# Altium schematic symbol library ADCSComponents.SchLib: 55 symbols
Pins are listed as number, name and electrical type; pins without a type are passive.

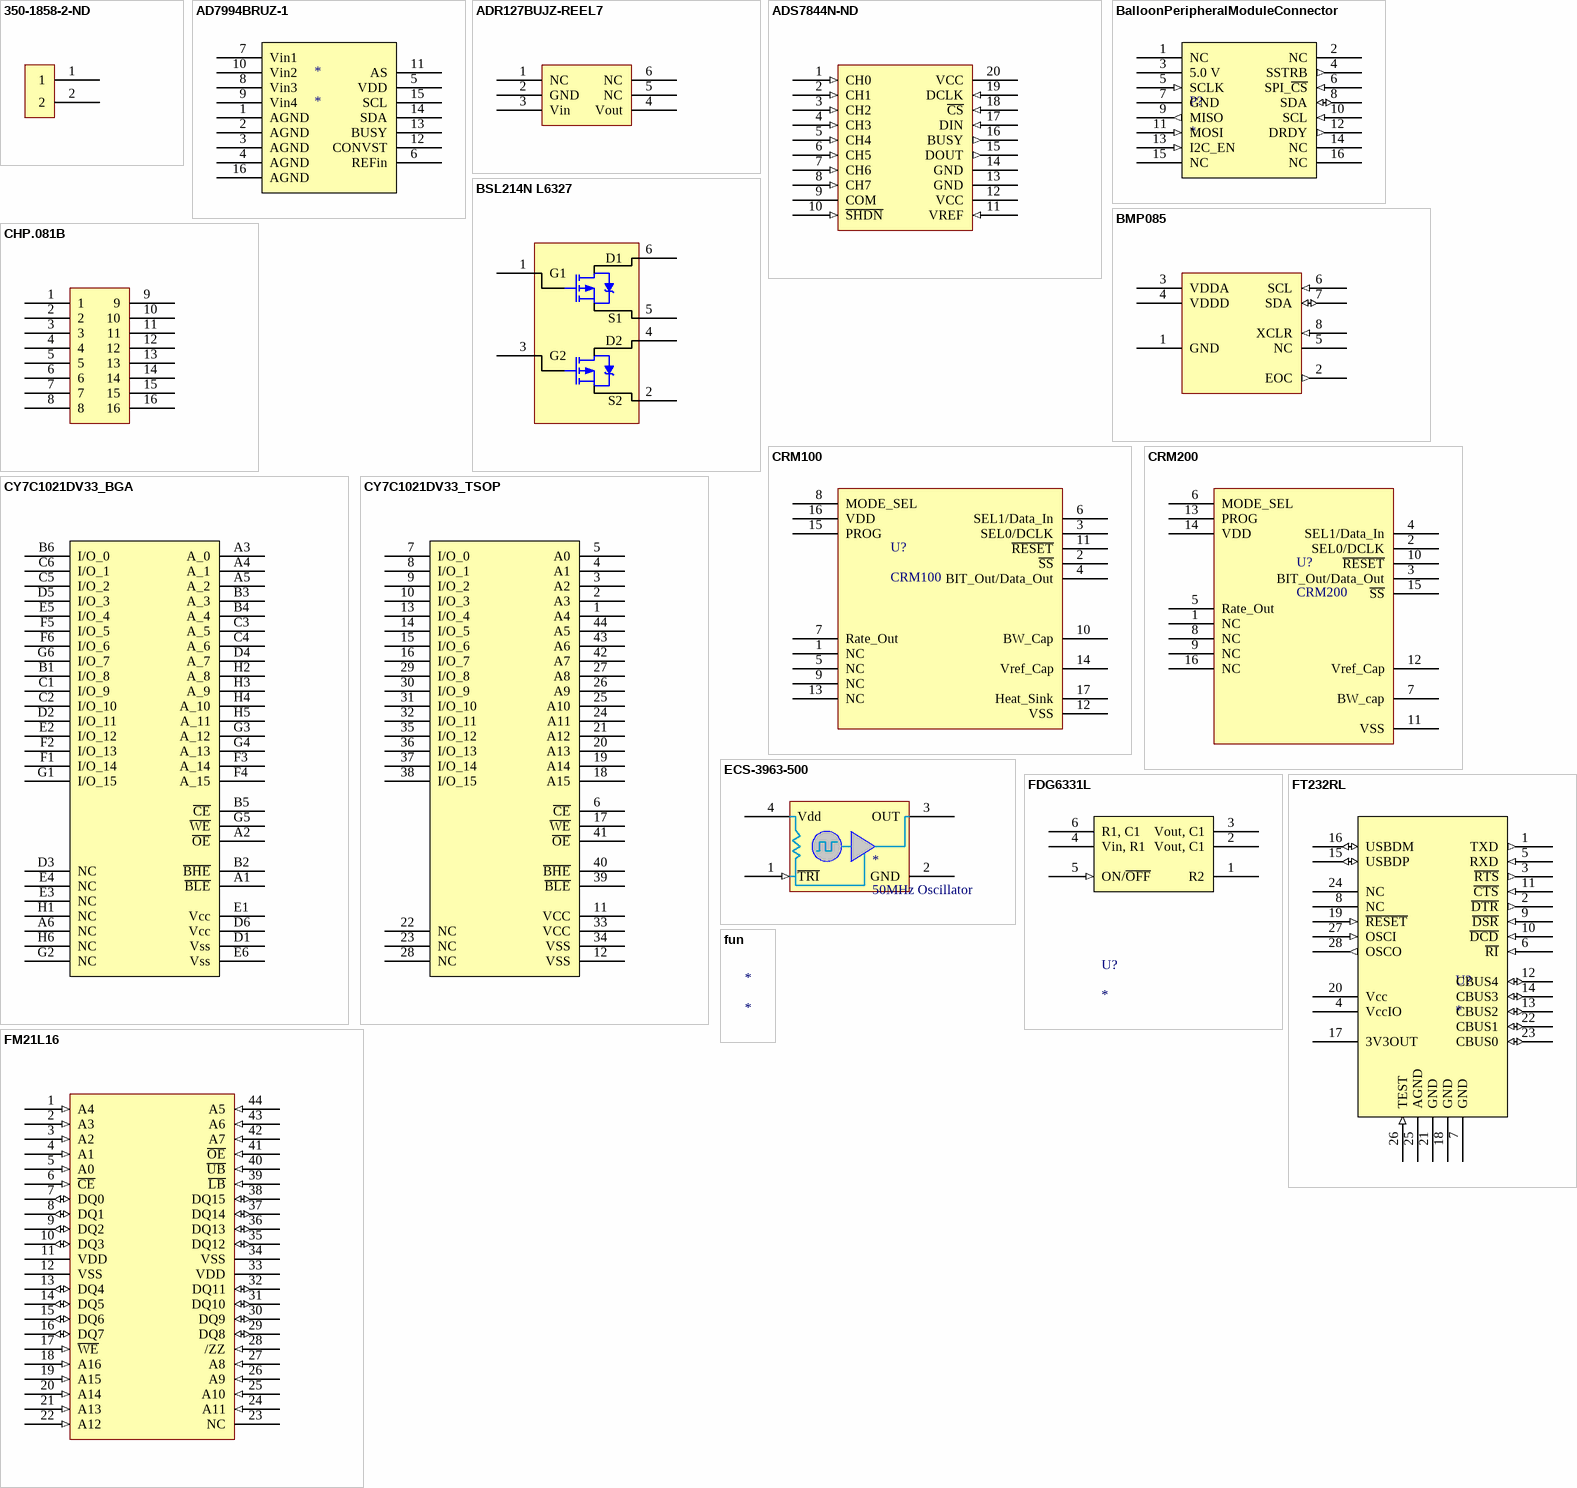
[diagram p0: symbols 350-1858-2-ND to fun]

## 350-1858-2-ND
designator U?  (value not drawn)
LED; Digikey: 350-1858-2-ND; Datasheet: http://www.dialight.com/Assets/Brochures_And_Catalogs/Indication/MDEF592B001.pdf
footprint SuperSOT-6
pins: 1, 2

## AD7994BRUZ-1
designator *
Digikey: AD7994BRUZ-1
footprint 16-TSSOP
pins: 1 AGND, 2 AGND, 3 AGND, 4 AGND, 5 VDD, 6 REFin, 7 Vin1, 8 Vin3, 9 Vin4, 10 Vin2, 11 AS, 12 CONVST, 13 BUSY, 14 SDA, 15 SCL, 16 AGND

## ADR127BUJZ-REEL7
designator U?
ADR127BUJZ-REEL7 voltage reference; Datasheet: http://www.analog.com/static/imported-files/Data_Sheets/ADR121_125_127.pdf; Digikey: ADR127BUJZ-REEL7CT-ND
footprint ADR127BUJZ-REEL7
pins: 1 NC, 2 GND, 3 Vin, 4 Vout, 5 NC, 6 NC

## ADS7844N-ND
designator U?
ADC; Digikey: ADS7844N-ND; datasheet: http://www.ti.com/lit/ds/symlink/ads7844.pdf
footprint ADS7844N-ND
pins: 1 CH0 (in), 2 CH1 (in), 3 CH2 (in), 4 CH3 (in), 5 CH4 (in), 6 CH5 (in), 7 CH6 (in), 8 CH7 (in), 9 COM (power), 10 ~{SHDN} (in), 11 VREF (in), 12 VCC (power), 13 GND (power), 14 GND (power), 15 DOUT (out), 16 BUSY (out), 17 DIN (in), 18 ~{CS} (in), 19 DCLK (in), 20 VCC (power)

## BalloonPeripheralModuleConnector
designator P?
Connector to balloon peripheral ADCS modules; Samtec: FTSH-108-01-L-DV-K
footprint FTSH-108-01-L-DV-K (8X2 50 mil pitch SMT header)
pins: 1 NC, 2 NC, 3 5.0 V (power), 4 SSTRB (out), 5 SCLK (in), 6 SPI_~{CS} (in), 7 GND (power), 8 SDA (io), 9 MISO (out), 10 SCL (in), 11 MOSI (in), 12 DRDY (out), 13 I2C_EN (in), 14 NC, 15 NC, 16 NC

## BMP085
designator U?
Pressure Sensor; Digikey: 828-1005-1-ND; Datasheet: http://www.bosch-sensortec.com/content/language1/downloads/BST-BMP085-DS000-05.pdf
footprint BMP085
pins: 1 GND (power), 2 EOC (out), 3 VDDA (power), 4 VDDD (power), 5 NC, 6 SCL (in), 7 SDA (io), 8 XCLR (in)

## BSL214N L6327
designator U?
2-Pack NMOS; Digikey: BSL214N L6327CT-ND; Datasheet: http://www.infineon.com/dgdl/BSL214N_Rev2.1.pdf?folderId=db3a3043156fd573011622e10b5c1f67&fileId=db3a30431add1d95011afc5baa4504c2
footprint SuperSOT-6
pins: 1 G1, 2 S2, 3 G2, 4 D2, 5 S1, 6 D1

## CHP.081B
designator U?
DIP switch; datasheet: http://media.digikey.com/pdf/Data%20Sheets/COPAL%20Electronics%20PDFs/CHP.pdf; digikey: 563-1020-1-ND
footprint CHP.041TB
pins: 1, 2, 3, 4, 5, 6, 7, 8, 9, 10, 11, 12, 13, 14, 15, 16

## CRM100
designator U?
Z axis Gyro
pins: 1 NC, 2 ~{SS}, 3 SEL0/DCLK, 4 BIT_Out/Data_Out, 5 NC, 6 SEL1/Data_In, 7 Rate_Out, 8 MODE_SEL, 9 NC, 10 BW_Cap, 11 ~{RESET}, 12 VSS, 13 NC, 14 Vref_Cap, 15 PROG, 16 VDD, 17 Heat_Sink

## CRM200
designator U?
X or Y axis Gyro
pins: 1 NC, 2 SEL0/DCLK, 3 BIT_Out/Data_Out, 4 SEL1/Data_In, 5 Rate_Out, 6 MODE_SEL, 7 BW_cap, 8 NC, 9 NC, 10 ~{RESET}, 11 VSS, 12 Vref_Cap, 13 PROG, 14 VDD, 15 ~{SS}, 16 NC

## CY7C1021DV33_BGA
designator U?
SRAM with BGA footprint; Digikey: 428-2006-ND; Datasheet: http://www.cypress.com/?docID=31965
footprint SRAM (SRAM 6x8 BGA)
pins: A1 ~{BLE}, A2 ~{OE}, A3 A_0, A4 A_1, A5 A_2, A6 NC, B1 I/O_8, B2 ~{BHE}, B3 A_3, B4 A_4, B5 ~{CE}, B6 I/O_0, C1 I/O_9, C2 I/O_10, C3 A_5, C4 A_6, C5 I/O_2, C6 I/O_1, D1 Vss, D2 I/O_11, D3 NC, D4 A_7, D5 I/O_3, D6 Vcc, E1 Vcc, E2 I/O_12, E3 NC, E4 NC, E5 I/O_4, E6 Vss, F1 I/O_14, F2 I/O_13, F3 A_14, F4 A_15, F5 I/O_5, F6 I/O_6, G1 I/O_15, G2 NC, G3 A_12, G4 A_13, G5 ~{WE}, G6 I/O_7, H1 NC, H2 A_8, H3 A_9, H4 A_10, H5 A_11, H6 NC

## CY7C1021DV33_TSOP
designator U?  (value not drawn)
SRAM with TSOP footprint; Digikey: 428-2006-ND; datasheet: http://www.cypress.com/?docID=31965
footprint SRAM_2 (44-pin Thin Small Outline Package Type II)
pins: 1 A4, 2 A3, 3 A2, 4 A1, 5 A0, 6 ~{CE}, 7 I/O_0, 8 I/O_1, 9 I/O_2, 10 I/O_3, 11 VCC, 12 VSS, 13 I/O_4, 14 I/O_5, 15 I/O_6, 16 I/O_7, 17 ~{WE}, 18 A15, 19 A14, 20 A13, 21 A12, 22 NC, 23 NC, 24 A11, 25 A10, 26 A9, 27 A8, 28 NC, 29 I/O_8, 30 I/O_9, 31 I/O_10, 32 I/O_11, 33 VCC, 34 VSS, 35 I/O_12, 36 I/O_13, 37 I/O_14, 38 I/O_15, 39 ~{BLE}, 40 ~{BHE}, 41 ~{OE}, 42 A7, 43 A6, 44 A5

## ECS-3963-500
designator *, comment 50MHz Oscillator
Datasheet: http://www.ecsxtal.com/store/pdf/ecs-3961_3963.pdf; Digikey: XC1040CT-ND
footprint ECS-3963-500-BN-TR
pins: 1 ~{TRI} (in), 2 GND (power), 3 OUT, 4 Vdd (power)

## FDG6331L
designator U?
High side power distribution switch; Digikey: FDG6331LCT-ND; Datasheet: http://www.fairchildsemi.com/ds/FD%2FFDG6331L.pdf
footprint FDG6331L
pins: 1 R2, 2 Vout, C1 (power), 3 Vout, C1 (power), 4 Vin, R1 (power), 5 ON/~{OFF} (in), 6 R1, C1

## FM21L16
designator U?
FRAM; Datasheet: http://www.ramtron.com/files/datasheets/FM21L16_ds.pdf; Ramtron: FM21L16
footprint FM21L16
pins: 1 A4 (in), 2 A3 (in), 3 A2 (in), 4 A1 (in), 5 A0 (in), 6 ~{CE} (in), 7 DQ0 (io), 8 DQ1 (io), 9 DQ2 (io), 10 DQ3 (io), 11 VDD (power), 12 VSS (power), 13 DQ4 (io), 14 DQ5 (io), 15 DQ6 (io), 16 DQ7 (io), 17 ~{WE} (in), 18 A16 (in), 19 A15 (in), 20 A14 (in), 21 A13 (in), 22 A12 (in), 23 NC, 24 A11 (in), 25 A10 (in), 26 A9 (in), 27 A8 (in), 28 /ZZ (in), 29 DQ8 (io), 30 DQ9 (io), 31 DQ10 (io), 32 DQ11 (io), 33 VDD (power), 34 VSS (power), 35 DQ12 (io), 36 DQ13 (io), 37 DQ14 (io), 38 DQ15 (io), 39 ~{LB} (in), 40 ~{UB} (in), 41 ~{OE} (in), 42 A7 (in), 43 A6 (in), 44 A5 (in)

## FT232RL
designator U?
UART to USB translator; Datasheet: http://www.ftdichip.com/Support/Documents/DataSheets/ICs/DS_FT232R.pdf; Digikey: 768-1007-1-ND
footprint SSOP-28 (UART to USB translator)
pins: 1 TXD (out), 2 ~{DTR} (out), 3 ~{RTS} (out), 4 VccIO (power), 5 RXD (in), 6 ~{RI} (in), 7 GND (power), 8 NC, 9 ~{DSR} (in), 10 ~{DCD} (in), 11 ~{CTS} (in), 12 CBUS4 (io), 13 CBUS2 (io), 14 CBUS3 (io), 15 USBDP (io), 16 USBDM (io), 17 3V3OUT (power), 18 GND (power), 19 ~{RESET} (in), 20 Vcc (power), 21 GND (power), 22 CBUS1 (io), 23 CBUS0 (io), 24 NC, 25 AGND (power), 26 TEST (in), 27 OSCI (in), 28 OSCO (out)

## fun
designator *
Supplier 1: Mouser; Supplier 2: Mouser; Supplier 3: Farnell; Supplier 4: Digi-Key

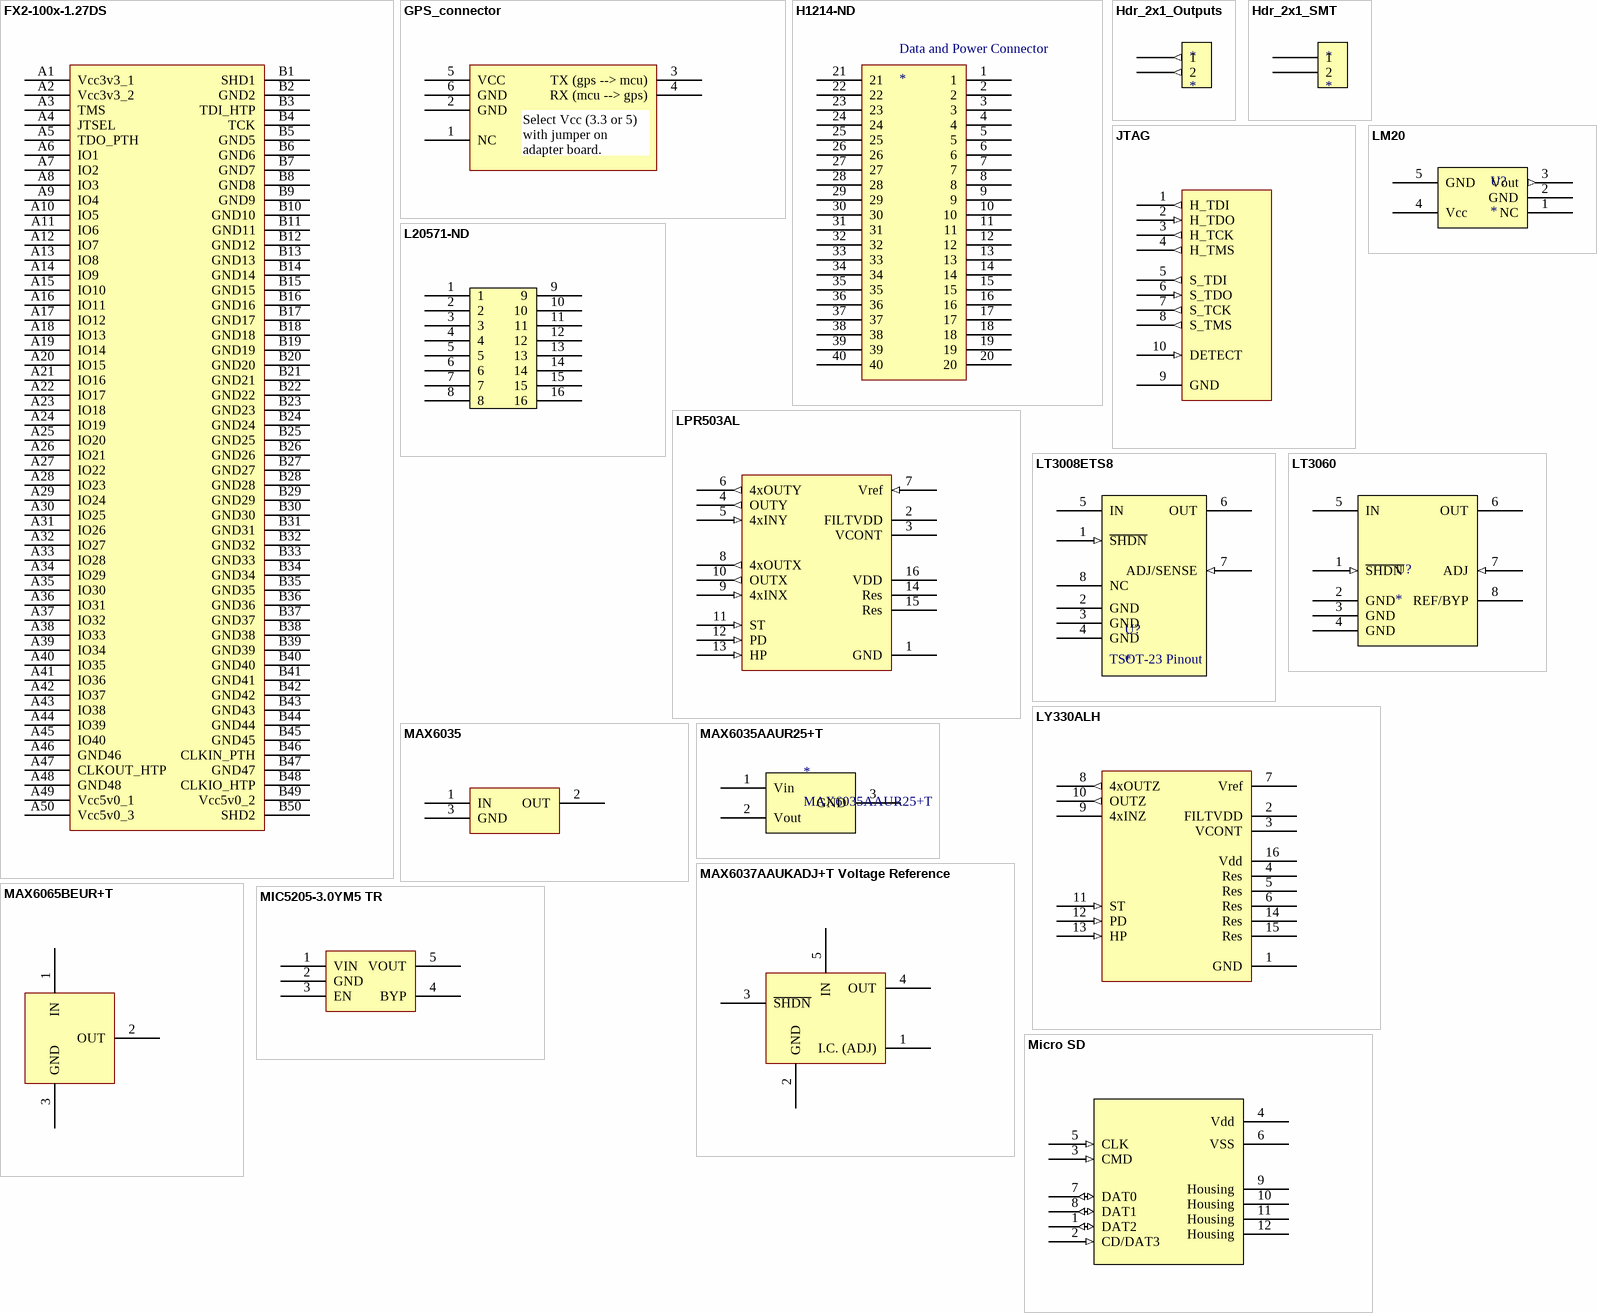
[diagram p1: symbols FX2-100x-1.27DS to Micro SD]

## FX2-100x-1.27DS
designator P?
100-pin connector s3sb connector
footprint FX2-100S-1.27DS (11-pin s3sb expansion connecter)
pins: A1 Vcc3v3_1, A2 Vcc3v3_2, A3 TMS, A4 JTSEL, A5 TDO_PTH, A6 IO1, A7 IO2, A8 IO3, A9 IO4, A10 IO5, A11 IO6, A12 IO7, A13 IO8, A14 IO9, A15 IO10, A16 IO11, A17 IO12, A18 IO13, A19 IO14, A20 IO15, A21 IO16, A22 IO17, A23 IO18, A24 IO19, A25 IO20, A26 IO21, A27 IO22, A28 IO23, A29 IO24, A30 IO25, A31 IO26, A32 IO27, A33 IO28, A34 IO29, A35 IO30, A36 IO31, A37 IO32, A38 IO33, A39 IO34, A40 IO35, A41 IO36, A42 IO37, A43 IO38, A44 IO39, A45 IO40, A46 GND46, A47 CLKOUT_HTP, A48 GND48, A49 Vcc5v0_1, A50 Vcc5v0_3, B1 SHD1, B2 GND2, B3 TDI_HTP, B4 TCK, B5 GND5, B6 GND6, B7 GND7, B8 GND8, B9 GND9, B10 GND10, B11 GND11, B12 GND12, B13 GND13, B14 GND14, B15 GND15, B16 GND16, B17 GND17, B18 GND18, B19 GND19, B20 GND20, B21 GND21, B22 GND22, B23 GND23, B24 GND24, B25 GND25, B26 GND26, B27 GND27, B28 GND28, B29 GND29, B30 GND30, B31 GND31, B32 GND32, B33 GND33, B34 GND34, B35 GND35, B36 GND36, B37 GND37, B38 GND38, B39 GND39, B40 GND40, B41 GND41, B42 GND42, B43 GND43, B44 GND44, B45 GND45, B46 CLKIN_PTH, B47 GND47, B48 CLKIO_HTP, B49 Vcc5v0_2, B50 SHD2

## GPS_connector
designator P?
GPS Connector; digikey: 455-1806-1-ND; datasheet: http://www.jst-mfg.com/product/pdf/eng/eSH.pdf
footprint SM06B-SRSS-TB (Right-angle GPS connector)
pins: 1 NC, 2 GND, 3 TX (gps --> mcu), 4 RX (mcu --> gps), 5 VCC, 6 GND
text: Select Vcc (3.3 or 5) with jumper on adapter board.

## H1214-ND
designator Data and Power Connector
CONN RECEPT 40POS .6MM GOLD SMD
footprint H1214-ND (CONN RECEPT 40POS .6MM GOLD SMD)
pins: 1, 2, 3, 4, 5, 6, 7, 8, 9, 10, 11, 12, 13, 14, 15, 16, 17, 18, 19, 20, 21, 22, 23, 24, 25, 26, 27, 28, 29, 30, 31, 32, 33, 34, 35, 36, 37, 38, 39, 40

## Hdr_2x1_Outputs
designator *
Samtec: TSM Single Row Horizontal; Footprint: http://www.samtec.com/documents/webfiles/cpdf/TSM-SH.PDF
footprint Hdr_2x1_outputs
pins: 1 (out), 2 (out)

## Hdr_2x1_SMT
designator *
footprint Hdr_2x1_outputs
pins: 1, 2

## JTAG
designator *
Samtec: HTST-105-01-T-DV; PinoutRef: http://wiki.altium.com/display/ADOH/USB+JTAG+Adapter+-+Cable+Pinouts
footprint HTST-105-01-T-DV (Double Row Shrouded Vertical Header)
pins: 1 H_TDI (out), 2 H_TDO (in), 3 H_TCK (out), 4 H_TMS (out), 5 S_TDI (out), 6 S_TDO (in), 7 S_TCK (out), 8 S_TMS (out), 9 GND (power), 10 DETECT (in)

## L20571-ND
designator U?  (value not drawn)
LEDs; Digikey: http://www.chml.com/products/pdf/1-175.pdf
footprint L20571-ND
pins: 1, 2, 3, 4, 5, 6, 7, 8, 9, 10, 11, 12, 13, 14, 15, 16

## LM20
designator U?
Analog Temperature Sensor; Datasheet: http://www.st.com/internet/com/TECHNICAL_RESOURCES/TECHNICAL_LITERATURE/DATASHEET/CD00119601.pdf; Digikey: 497-5970-1-ND
footprint LM20
pins: 1 NC, 2 GND (power), 3 Vout (out), 4 Vcc (power), 5 GND (power)

## LPR503AL
designator U?, comment LPY550Al
XY axis Gyroscope; Datasheet: http://www.st.com/internet/com/TECHNICAL_RESOURCES/TECHNICAL_LITERATURE/DATASHEET/CD00237207.pdf; Digikey: 497-8968-1-ND
footprint LPR503AL
pins: 1 GND (power), 2 FILTVDD, 3 VCONT, 4 OUTY (out) "not applified output", 5 4xINY (in) "input of 4x amplifier", 6 4xOUTY (out) "X rate signal output voltage (amplified)", 7 Vref (in), 8 4xOUTX (out), 9 4xINX (in), 10 OUTX (out) "not applified output", 11 ST (in) "self-test (logic 0: normal, logic 1: self-test)", 12 PD (in) "power down", 13 HP (in) "high pass filter reset", 14 Res "connect to Vdd", 15 Res "Connect to Vdd", 16 VDD (power) "power"

## LT3008ETS8
designator U?
Adjustable Output LDO, DFN package; Datasheet: http://cds.linear.com/docs/Datasheet/3008fb.pdf; Digikey: LT3008MPTS8#TRMPBFDKR-ND
footprint LT3008ETS8
pins: 1 ~{SHDN} (in), 2 GND (power), 3 GND (power), 4 GND (power), 5 IN (power), 6 OUT (power), 7 ADJ/SENSE (in), 8 NC
text: TSOT-23 Pinout

## LT3060
designator U?
Fixed output LDO; Digikey: LT3060MPTS8-1.2#TRMPBFCT-ND; Datasheet: http://cds.linear.com/docs/Datasheet/3060fb.pdf
footprint LT3008ETS8
pins: 1 ~{SHDN} (in), 2 GND (power), 3 GND (power), 4 GND (power), 5 IN (power), 6 OUT (power), 7 ADJ (in), 8 REF/BYP

## LY330ALH
designator U?, comment LY550ALH
Single axis gyro; Digikey: 497-8960-1-ND; Datasheet: http://www.st.com/internet/com/TECHNICAL_RESOURCES/TECHNICAL_LITERATURE/DATASHEET/CD00237192.pdf
footprint LY330ALH
pins: 1 GND (power), 2 FILTVDD (power) "self test", 3 VCONT "PLL filter connection", 4 Res, 5 Res "connect to Vdd", 6 Res, 7 Vref, 8 4xOUTZ (out), 9 4xINZ, 10 OUTZ (out), 11 ST (in), 12 PD (in), 13 HP (in), 14 Res, 15 Res, 16 Vdd (power)

## MAX6035
designator U?
5.0V Reference; Datasheet: http://datasheets.maxim-ic.com/en/ds/MAX6035.pdf; Digikey: MAX6035AAUR50+TCT-ND
footprint MAX6035
pins: 1 IN (power), 2 OUT (power), 3 GND (power)

## MAX6035AAUR25+T
designator *
Voltage Reference 2.5V; Digikey: MAX6035AAUR25+TCT-ND; Datasheet: http://datasheets.maxim-ic.com/en/ds/MAX6035.pdf
footprint SOT-23-3
pins: 1 Vin, 2 Vout, 3 GND

## MAX6037AAUKADJ+T Voltage Reference
designator *, comment MAX6037AAUKADJ+T
MAX6037AAUKADJ+T Voltage Reference; datasheet: http://datasheets.maxim-ic.com/en/ds/MAX6037-MAX6037C.pdf
footprint MAX6037AAUKADJ+T
pins: 1 I.C. (ADJ), 2 GND, 3 ~{SHDN}, 4 OUT, 5 IN

## MAX6065BEUR+T
designator *
datasheet: http://datasheets.maxim-ic.com/en/ds/MAX6061-MAX6068.pdf
footprint MAX6065BEUR_T
pins: 1 IN, 2 OUT, 3 GND

## MIC5205-3.0YM5 TR
designator U?
Voltage Regulator_linear; Digikey: 576-1258-1-ND; datasheet: http://www.micrel.com/_PDF/mic5205.pdf
footprint TPS3838K33
pins: 1 VIN, 2 GND, 3 EN, 4 BYP, 5 VOUT

## Micro SD
designator U?, comment 101-00303-68-1-ND  (value not drawn)
Micro SD; Digikey: 101-00303-68-1-ND; Datasheet: http://media.digikey.com/pdf/Data%20Sheets/Amphenol%20PDFs/101-00303-xx.pdf
footprint micro SD (Micro SD 101-00303-68-1-ND)
pins: 1 DAT2 (io), 2 CD/DAT3 (in), 3 CMD (in), 4 Vdd (power), 5 CLK (in), 6 VSS (power), 7 DAT0 (io), 8 DAT1 (io), 9 Housing, 10 Housing, 11 Housing, 12 Housing

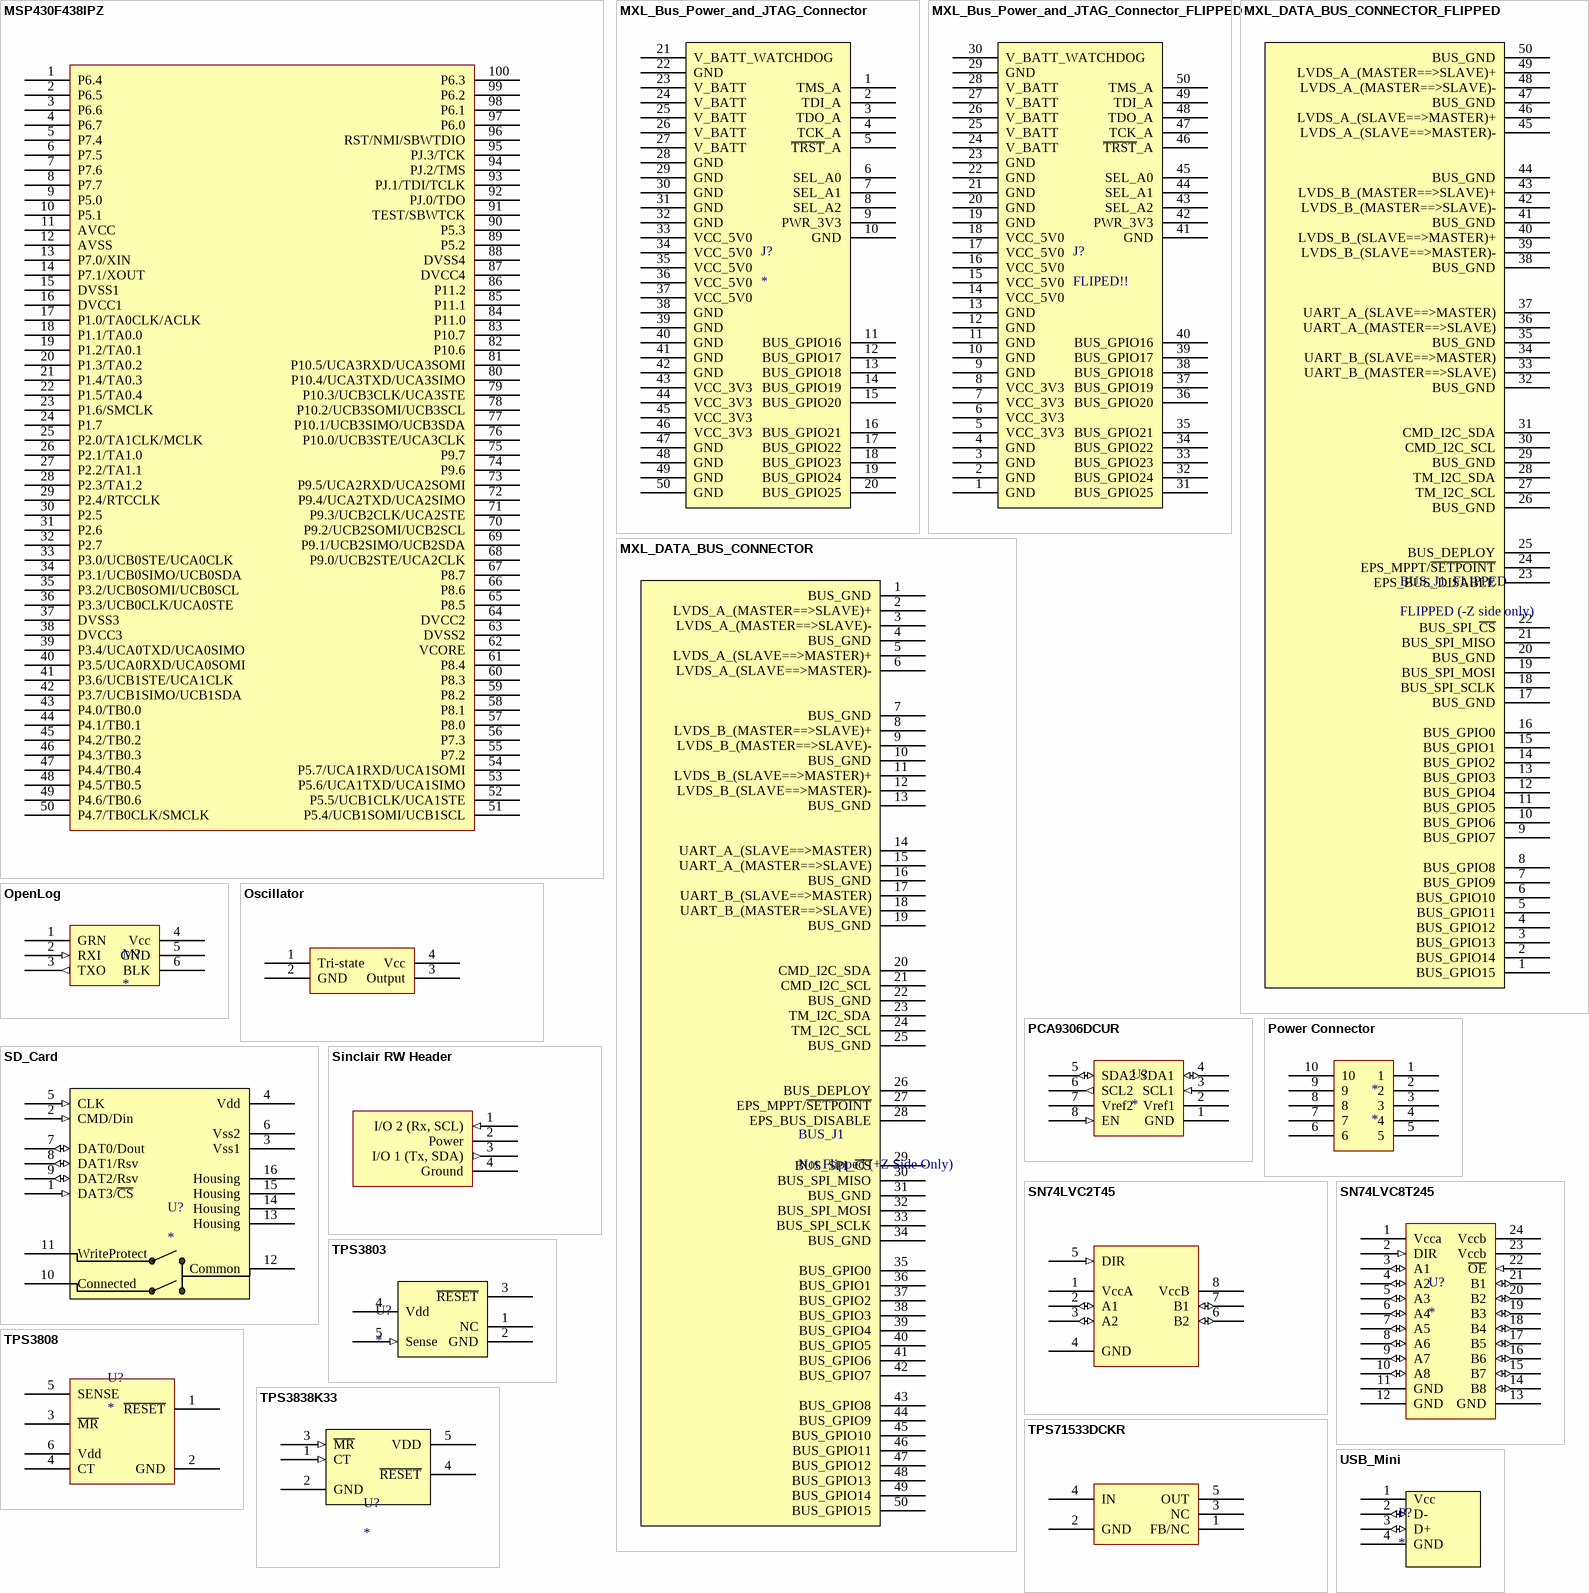
[diagram p2: symbols MSP430F438IPZ to USB_Mini]

## MSP430F438IPZ
designator *, comment rax_battery_charging_connector
footprint SQFP50P1600X1600-100L (Shrink QFP, 100-Leads, Body 14x14mm, Pitch 0.5mm, IPC High Density)
pins: 1 P6.4, 2 P6.5, 3 P6.6, 4 P6.7, 5 P7.4, 6 P7.5, 7 P7.6, 8 P7.7, 9 P5.0, 10 P5.1, 11 AVCC, 12 AVSS, 13 P7.0/XIN, 14 P7.1/XOUT, 15 DVSS1, 16 DVCC1, 17 P1.0/TA0CLK/ACLK, 18 P1.1/TA0.0, 19 P1.2/TA0.1, 20 P1.3/TA0.2, 21 P1.4/TA0.3, 22 P1.5/TA0.4, 23 P1.6/SMCLK, 24 P1.7, 25 P2.0/TA1CLK/MCLK, 26 P2.1/TA1.0, 27 P2.2/TA1.1, 28 P2.3/TA1.2, 29 P2.4/RTCCLK, 30 P2.5, 31 P2.6, 32 P2.7, 33 P3.0/UCB0STE/UCA0CLK, 34 P3.1/UCB0SIMO/UCB0SDA, 35 P3.2/UCB0SOMI/UCB0SCL, 36 P3.3/UCB0CLK/UCA0STE, 37 DVSS3, 38 DVCC3, 39 P3.4/UCA0TXD/UCA0SIMO, 40 P3.5/UCA0RXD/UCA0SOMI, 41 P3.6/UCB1STE/UCA1CLK, 42 P3.7/UCB1SIMO/UCB1SDA, 43 P4.0/TB0.0, 44 P4.1/TB0.1, 45 P4.2/TB0.2, 46 P4.3/TB0.3, 47 P4.4/TB0.4, 48 P4.5/TB0.5, 49 P4.6/TB0.6, 50 P4.7/TB0CLK/SMCLK, 51 P5.4/UCB1SOMI/UCB1SCL, 52 P5.5/UCB1CLK/UCA1STE, 53 P5.6/UCA1TXD/UCA1SIMO, 54 P5.7/UCA1RXD/UCA1SOMI, 55 P7.2, 56 P7.3, 57 P8.0, 58 P8.1, 59 P8.2, 60 P8.3, 61 P8.4, 62 VCORE, 63 DVSS2, 64 DVCC2, 65 P8.5, 66 P8.6, 67 P8.7, 68 P9.0/UCB2STE/UCA2CLK, 69 P9.1/UCB2SIMO/UCB2SDA, 70 P9.2/UCB2SOMI/UCB2SCL, 71 P9.3/UCB2CLK/UCA2STE, 72 P9.4/UCA2TXD/UCA2SIMO, 73 P9.5/UCA2RXD/UCA2SOMI, 74 P9.6, 75 P9.7, 76 P10.0/UCB3STE/UCA3CLK, 77 P10.1/UCB3SIMO/UCB3SDA, 78 P10.2/UCB3SOMI/UCB3SCL, 79 P10.3/UCB3CLK/UCA3STE, 80 P10.4/UCA3TXD/UCA3SIMO, 81 P10.5/UCA3RXD/UCA3SOMI, 82 P10.6, 83 P10.7, 84 P11.0, 85 P11.1, 86 P11.2, 87 DVCC4, 88 DVSS4, 89 P5.2, 90 P5.3, 91 TEST/SBWTCK, 92 PJ.0/TDO, 93 PJ.1/TDI/TCLK, 94 PJ.2/TMS, 95 PJ.3/TCK, 96 RST/NMI/SBWTDIO, 97 P6.0, 98 P6.1, 99 P6.2, 100 P6.3

## MXL_Bus_Power_and_JTAG_Connector
designator J?
50-pin power / JTAG connector; Digikey: WM18872-ND; Datasheet: http://www.molex.com/pdm_docs/sd/878335020_sd.pdf; ProductPage: http://www.molex.com/molex/products/datasheet.jsp?part=active/0878335020_PCB_HEADERS.xml
footprint SHF-125-01-L-D-RA (Right angle shrouded header for Samtec ribbon cable assy.)
pins: 1 TMS_A, 2 TDI_A, 3 TDO_A, 4 TCK_A, 5 ~{TRST}_A, 6 SEL_A0, 7 SEL_A1, 8 SEL_A2, 9 PWR_3V3, 10 GND, 11 BUS_GPIO16, 12 BUS_GPIO17, 13 BUS_GPIO18, 14 BUS_GPIO19, 15 BUS_GPIO20, 16 BUS_GPIO21, 17 BUS_GPIO22, 18 BUS_GPIO23, 19 BUS_GPIO24, 20 BUS_GPIO25, 21 V_BATT_WATCHDOG, 22 GND, 23 V_BATT, 24 V_BATT, 25 V_BATT, 26 V_BATT, 27 V_BATT, 28 GND, 29 GND, 30 GND, 31 GND, 32 GND, 33 VCC_5V0, 34 VCC_5V0, 35 VCC_5V0, 36 VCC_5V0, 37 VCC_5V0, 38 GND, 39 GND, 40 GND, 41 GND, 42 GND, 43 VCC_3V3, 44 VCC_3V3, 45 VCC_3V3, 46 VCC_3V3, 47 GND, 48 GND, 49 GND, 50 GND

## MXL_Bus_Power_and_JTAG_Connector_FLIPPED
designator J?, comment FLIPED!!
50-pin power / JTAG connector; Digikey: WM18872-ND; Datasheet: http://www.molex.com/pdm_docs/sd/878335020_sd.pdf; ProductPage: http://www.molex.com/molex/products/datasheet.jsp?part=active/0878335020_PCB_HEADERS.xml
footprint SHF-125-01-L-D-RA - FLIPPED (Right angle shrouded header for Samtec ribbon cable assy.)
pins: 1 GND, 2 GND, 3 GND, 4 GND, 5 VCC_3V3, 6 VCC_3V3, 7 VCC_3V3, 8 VCC_3V3, 9 GND, 10 GND, 11 GND, 12 GND, 13 GND, 14 VCC_5V0, 15 VCC_5V0, 16 VCC_5V0, 17 VCC_5V0, 18 VCC_5V0, 19 GND, 20 GND, 21 GND, 22 GND, 23 GND, 24 V_BATT, 25 V_BATT, 26 V_BATT, 27 V_BATT, 28 V_BATT, 29 GND, 30 V_BATT_WATCHDOG, 31 BUS_GPIO25, 32 BUS_GPIO24, 33 BUS_GPIO23, 34 BUS_GPIO22, 35 BUS_GPIO21, 36 BUS_GPIO20, 37 BUS_GPIO19, 38 BUS_GPIO18, 39 BUS_GPIO17, 40 BUS_GPIO16, 41 GND, 42 PWR_3V3, 43 SEL_A2, 44 SEL_A1, 45 SEL_A0, 46 ~{TRST}_A, 47 TCK_A, 48 TDO_A, 49 TDI_A, 50 TMS_A

## MXL_DATA_BUS_CONNECTOR
designator BUS_J1, comment Not Flipped (+Z Side Only)
50-pin ribbon cable; Digikey: WM18872-ND; Datasheet: http://www.molex.com/pdm_docs/sd/878335020_sd.pdf; ProductPage: http://www.molex.com/molex/products/datasheet.jsp?part=active/0878335020_PCB_HEADERS.xml
footprint SHF-125-01-L-D-RA (Right angle shrouded header for Samtec ribbon cable assy.)
pins: 1 BUS_GND, 2 LVDS_A_(MASTER==>SLAVE)+, 3 LVDS_A_(MASTER==>SLAVE)-, 4 BUS_GND, 5 LVDS_A_(SLAVE==>MASTER)+, 6 LVDS_A_(SLAVE==>MASTER)-, 7 BUS_GND, 8 LVDS_B_(MASTER==>SLAVE)+, 9 LVDS_B_(MASTER==>SLAVE)-, 10 BUS_GND, 11 LVDS_B_(SLAVE==>MASTER)+, 12 LVDS_B_(SLAVE==>MASTER)-, 13 BUS_GND, 14 UART_A_(SLAVE==>MASTER), 15 UART_A_(MASTER==>SLAVE), 16 BUS_GND, 17 UART_B_(SLAVE==>MASTER), 18 UART_B_(MASTER==>SLAVE), 19 BUS_GND, 20 CMD_I2C_SDA, 21 CMD_I2C_SCL, 22 BUS_GND, 23 TM_I2C_SDA, 24 TM_I2C_SCL, 25 BUS_GND, 26 BUS_DEPLOY, 27 EPS_MPPT/~{SETPOINT}, 28 EPS_BUS_DISABLE, 29 BUS_SPI_~{CS}, 30 BUS_SPI_MISO, 31 BUS_GND, 32 BUS_SPI_MOSI, 33 BUS_SPI_SCLK, 34 BUS_GND, 35 BUS_GPIO0, 36 BUS_GPIO1, 37 BUS_GPIO2, 38 BUS_GPIO3, 39 BUS_GPIO4, 40 BUS_GPIO5, 41 BUS_GPIO6, 42 BUS_GPIO7, 43 BUS_GPIO8, 44 BUS_GPIO9, 45 BUS_GPIO10, 46 BUS_GPIO11, 47 BUS_GPIO12, 48 BUS_GPIO13, 49 BUS_GPIO14, 50 BUS_GPIO15

## MXL_DATA_BUS_CONNECTOR_FLIPPED
designator BUS_J1_FLIPPED, comment FLIPPED (-Z side only)
50-pin ribbon cable; Digikey: WM18872-ND; Datasheet: http://www.molex.com/pdm_docs/sd/878335020_sd.pdf; ProductPage: http://www.molex.com/molex/products/datasheet.jsp?part=active/0878335020_PCB_HEADERS.xml
footprint SHF-125-01-L-D-RA - FLIPPEd (Right angle shrouded header for Samtec ribbon cable assy.)
pins: 1 BUS_GPIO15, 2 BUS_GPIO14, 3 BUS_GPIO13, 4 BUS_GPIO12, 5 BUS_GPIO11, 6 BUS_GPIO10, 7 BUS_GPIO9, 8 BUS_GPIO8, 9 BUS_GPIO7, 10 BUS_GPIO6, 11 BUS_GPIO5, 12 BUS_GPIO4, 13 BUS_GPIO3, 14 BUS_GPIO2, 15 BUS_GPIO1, 16 BUS_GPIO0, 17 BUS_GND, 18 BUS_SPI_SCLK, 19 BUS_SPI_MOSI, 20 BUS_GND, 21 BUS_SPI_MISO, 22 BUS_SPI_~{CS}, 23 EPS_BUS_DISABLE, 24 EPS_MPPT/~{SETPOINT}, 25 BUS_DEPLOY, 26 BUS_GND, 27 TM_I2C_SCL, 28 TM_I2C_SDA, 29 BUS_GND, 30 CMD_I2C_SCL, 31 CMD_I2C_SDA, 32 BUS_GND, 33 UART_B_(MASTER==>SLAVE), 34 UART_B_(SLAVE==>MASTER), 35 BUS_GND, 36 UART_A_(MASTER==>SLAVE), 37 UART_A_(SLAVE==>MASTER), 38 BUS_GND, 39 LVDS_B_(SLAVE==>MASTER)-, 40 LVDS_B_(SLAVE==>MASTER)+, 41 BUS_GND, 42 LVDS_B_(MASTER==>SLAVE)-, 43 LVDS_B_(MASTER==>SLAVE)+, 44 BUS_GND, 45 LVDS_A_(SLAVE==>MASTER)-, 46 LVDS_A_(SLAVE==>MASTER)+, 47 BUS_GND, 48 LVDS_A_(MASTER==>SLAVE)-, 49 LVDS_A_(MASTER==>SLAVE)+, 50 BUS_GND

## OpenLog
designator M?
Micro-SD card datalogger; Sparkfun: DEV-09530; Datasheet: https://github.com/nseidle/OpenLog/wiki/Datasheet
footprint SPARKFUN OPENLOG (OPENLOG DATALOGGER FROM SPARKFUN)
pins: 1 GRN, 2 RXI (in), 3 TXO (out), 4 Vcc (power), 5 GND (power), 6 BLK

## Oscillator
designator M?, comment LT3580 MODULE
digikey: ECS-UPO-5X7-ND; datasheet: http://www.ecsxtal.com/store/pdf/ecs-p73_p75.pdf
footprint Oscillator (ECS-UPO-5X7-ND)
pins: 1 Tri-state, 2 GND, 3 Output, 4 Vcc

## PCA9306DCUR
designator U?
I2C bus transciever, dual supply; Datasheet: http://www.ti.com/lit/ds/symlink/pca9306.pdf; Digikey: 296-17988-1-ND
footprint PCA9306DCUR
pins: 1 GND (power), 2 Vref1 (power), 3 SCL1 (in), 4 SDA1 (io), 5 SDA2 (io), 6 SCL2 (out), 7 Vref2 (power), 8 EN (in)

## Power Connector
designator *
pins: 1, 2, 3, 4, 5, 6, 7, 8, 9, 10

## SD_Card
designator U?
SD card socket; Digikey: HR845CT-ND; datasheet: http://www.hirose.co.jp/cataloge_hp/e60900048.pdf
footprint SD_Card
pins: 1 DAT3/~{CS} (in), 2 CMD/Din (in), 3 Vss1 (power), 4 Vdd (power), 5 CLK (in), 6 Vss2 (power), 7 DAT0/Dout (io), 8 DAT1/Rsv (io), 9 DAT2/Rsv (io), 10 Connected, 11 WriteProtect, 12 Common, 13 Housing, 14 Housing, 15 Housing, 16 Housing

## Sinclair RW Header
designator P?, comment Header
PCB connector for Sinclair reaction wheel; Manufacturer Part Number: DF11-4DP-2DS(52); Manufacturer: Hirose; Digikey: H2865-ND; Datasheet: http://www.hirose.co.jp/cataloge_hp/e54305002.pdf; Pinout Reference: https://mxl-redmine.engin.umich.edu/redmine/projects/scbus/repository/changes/Documentation/CADRE%20Specific/off_the_shelf_parts/reaction_wheels/common_from_online/LVWheelElectricalICDRev1.1.pdf
footprint DF11-4DP-2DS(52)
pins: 1 I/O 2 (Rx, SCL) (in), 2 Power, 3 I/O 1 (Tx, SDA) (out), 4 Ground

## SN74LVC2T45
designator U?
Datasheet: http://www.ti.com/lit/ds/symlink/sn74lvc2t45.pdf; Digikey: 296-16845-1-ND
footprint SN74LVC2T45
pins: 1 VccA (power), 2 A1 (io), 3 A2 (io), 4 GND (power), 5 DIR (in), 6 B2 (io), 7 B1 (io), 8 VccB (power)

## SN74LVC8T245
designator U?
Selectable direction, dual-supply bus transciever; TI: SN74LVC8T245DBR; Datasheet: http://www.ti.com/lit/ds/symlink/sn74lvc8t245.pdf; Digikey: 296-18593-1-ND
footprint SSOP-24
pins: 1 Vcca (power), 2 DIR (in), 3 A1 (io), 4 A2 (io), 5 A3 (io), 6 A4 (io), 7 A5 (io), 8 A6 (io), 9 A7 (io), 10 A8 (io), 11 GND (power), 12 GND (power), 13 GND (power), 14 B8 (io), 15 B7 (io), 16 B6 (io), 17 B5 (io), 18 B4 (io), 19 B3 (io), 20 B2 (io), 21 B1 (io), 22 ~{O}~{E} (in), 23 Vccb (power), 24 Vccb (power)

## TPS3803
designator U?
Voltage supervisor with open-drain output; Digikey: 296-18151-1-ND; Datasheet: http://www.ti.com/lit/ds/symlink/tps3805h33-ep.pdf
footprint TPS3803
pins: 1 NC, 2 GND (power), 3 ~{RESET} (oc), 4 Vdd (power), 5 Sense (in)

## TPS3808
designator U?
Voltage Supervisor; Digikey: *; Datasheet: http://www.ti.com/product/tps3808g12-q1
footprint SOT23-6
pins: 1 ~{RESET}, 2 GND, 3 ~{MR}, 4 CT, 5 SENSE, 6 Vdd

## TPS3838K33
designator U?
Voltage Supervisor; Digikey: 296-15670-1-ND; Datasheet: http://www.ti.com/lit/ds/symlink/tps3838j25-q1.pdf
footprint TPS3838K33
pins: 1 CT (in), 2 GND (power), 3 ~{MR} (in), 4 ~{RESET} (oc) "Open Drain", 5 VDD (power)

## TPS71533DCKR
designator U?
Digikey: 296-12008-1-ND; Datasheet: http://www.ti.com/lit/ds/symlink/tps71533.pdf
footprint TPS71533DCKR
pins: 1 FB/NC, 2 GND, 3 NC, 4 IN, 5 OUT

## USB_Mini
designator P?
Mini USB Socket; Digikey: H2959CT-ND; Datasheet: http://www.hirose.co.jp/cataloge_hp/e24000019.pdf
footprint USB_mini
pins: 1 Vcc (power), 2 D- (io), 3 D+ (io), 4 GND (power)

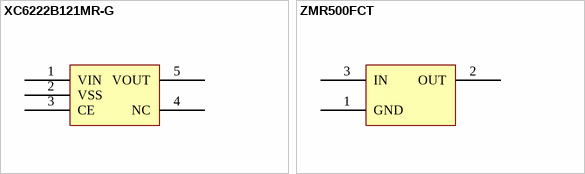
[diagram p3: symbols XC6222B121MR-G to ZMR500FCT]

## XC6222B121MR-G
designator U?
Linear Voltage Regulators; Digikey: 893-1139-1-ND; datasheet: http://media.digikey.com/pdf/Data%20Sheets/Torex/XC6222.pdf
footprint TPS3838K33
pins: 1 VIN, 2 VSS, 3 CE, 4 NC, 5 VOUT

## ZMR500FCT
designator U?
5V, 50mA LDO; Datasheet: http://www.diodes.com/datasheets/ZMRSERIES.pdf; Digikey: ZMR500FCT-ND
footprint ZMR500FCT
pins: 1 GND, 2 OUT, 3 IN